# EAGLE library part SST25VF016B (library arducorder-mini)
SST 25VF016B 16Mbit SPI Serial Flash
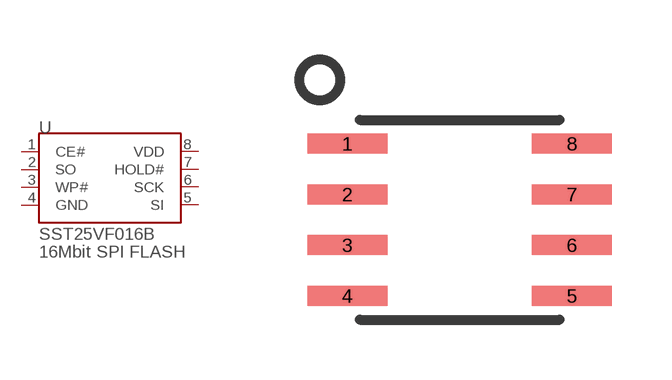
[diagram p29: symbol with the pads of 8-SOIC; footprint 8-SOIC]

Designator prefix -

## SST25VF016B  [8-SOIC]
1  CE#
2  SO
3  WP#
4  GND
5  SI
6  SCK
7  HOLD#
8  VDD

## Footprint 8-SOIC (pad centres in mm)
smd 2 x 0.5: 1 -2.81,1.905; 2 -2.81,0.635; 3 -2.81,-0.635; 4 -2.81,-1.905; 5 2.81,-1.905; 6 2.81,-0.635; 7 2.81,0.635; 8 2.81,1.905